# Altium footprint library ArdUno_AADsm5-42b.PcbLib: 27 footprints (part 2 of 2)
Each footprint in its own frame and in the unit in brackets; x right, y up, seen from the top. Pads: shape width x height; smd on the part's side, far side on the other; paste and mask are expansions set on the pad; w line width, h text height; cw(c..) or ccw(c..) is an arc to the next point about the centre after c.
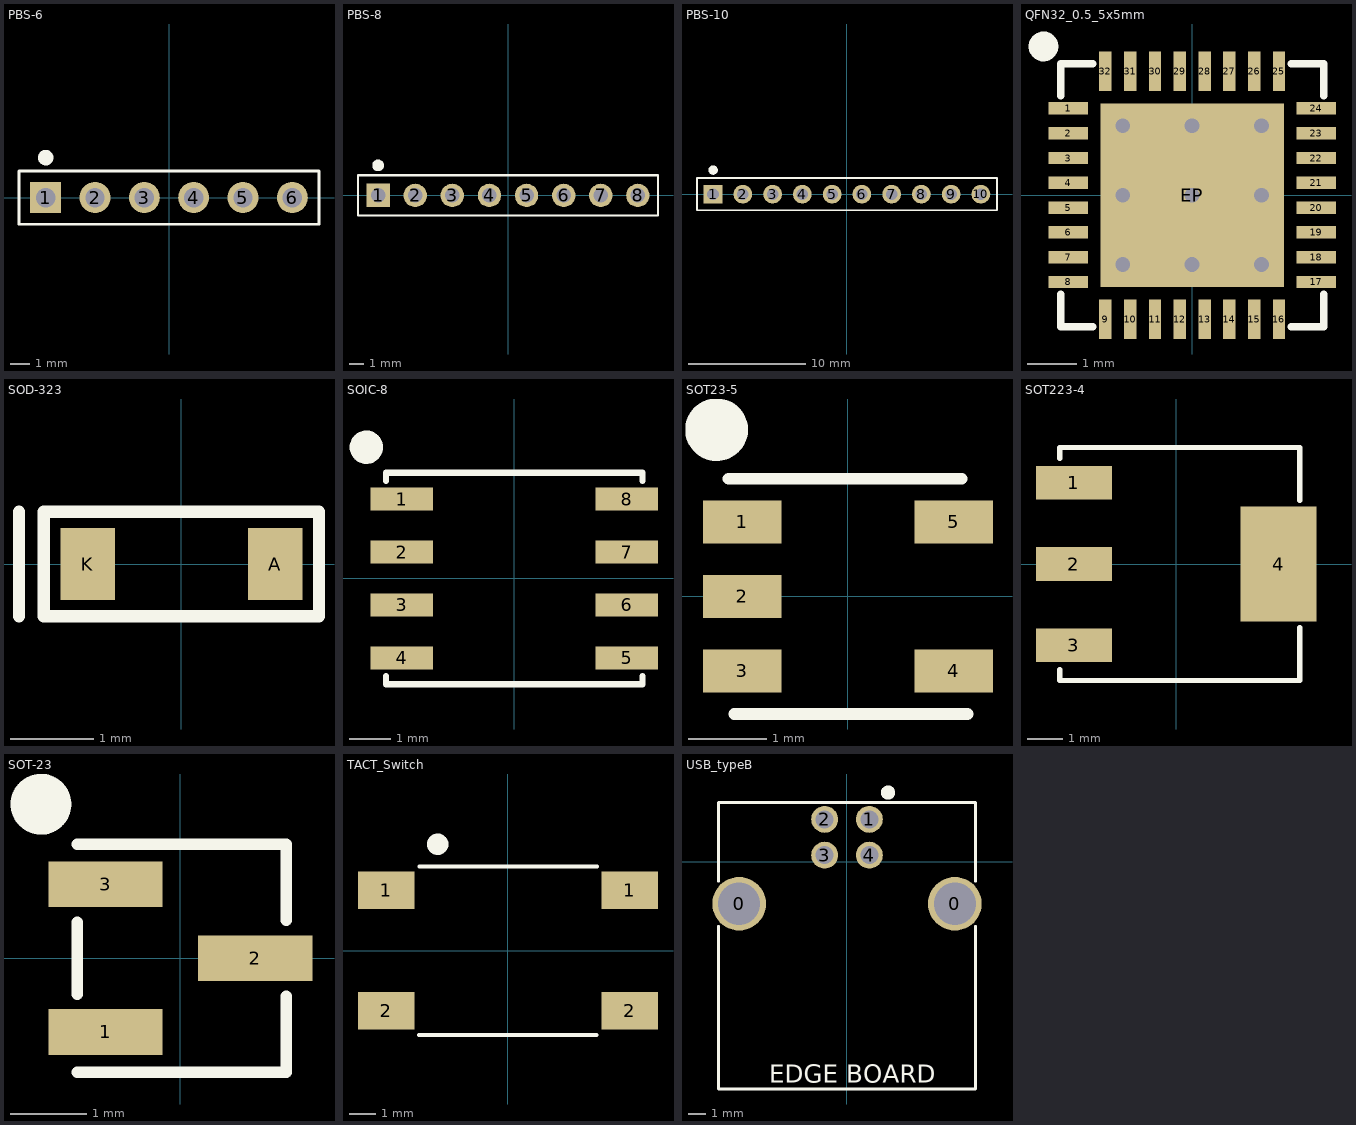
[diagram p1: the footprints below, top view; thin cyan lines are the x and y axes]

## PBS-6 [mm]
pads (6):
  rect 1.6x1.6 hole 1: 1(-6.35,0)
  round 1.6 hole 1: 2(-3.81,0) 3(-1.27,0) 4(1.27,0) 5(3.81,0) 6(6.35,0)
Top Overlay:
  circle w0.4: c-6.35,2.055 r0.2
  lines w0.15: -7.725,-1.375 7.725,-1.375 7.725,1.375 -7.725,1.375 -7.725,-1.375
3D body "PBS-06.step": height 8.4, standoff -3.2, extent -7.62,-1.27 7.62,1.27

## PBS-8 [mm]
pads (8):
  rect 1.6x1.6 hole 1: 1(-8.89,0)
  round 1.6 hole 1: 2(-6.35,0) 3(-3.81,0) 4(-1.27,0) 5(1.27,0) 6(3.81,0) 7(6.35,0) 8(8.89,0)
Top Overlay:
  circle w0.4: c-8.89,2.055 r0.2
  lines w0.15: -10.265,-1.375 10.265,-1.375 10.265,1.375 -10.265,1.375 -10.265,-1.375
3D body "PBS-08.step": height 8.4, standoff -3.2, extent -10.16,-1.27 10.16,1.27

## PBS-10 [mm]
pads (10):
  rect 1.6x1.6 hole 1: 1(-11.43,0)
  round 1.6 hole 1: 2(-8.89,0) 3(-6.35,0) 4(-3.81,0) 5(-1.27,0) 6(1.27,0) 7(3.81,0) 8(6.35,0) 9(8.89,0) 10(11.43,0)
Top Overlay:
  circle w0.4: c-11.43,2.055 r0.2
  lines w0.15: -12.805,-1.375 12.805,-1.375 12.805,1.375 -12.805,1.375 -12.805,-1.375
3D body "PBS-10.step": height 8.4, standoff -3.2, extent -12.7,-1.27 12.7,1.27

## QFN32_0.5_5x5mm [mm]
pads (33):
  rect 0.8x0.25 smd mask+0.05: 1(-2.5,1.75) 2(-2.5,1.25) 3(-2.5,0.75) 4(-2.5,0.25) 5(-2.5,-0.25) 6(-2.5,-0.75) 7(-2.5,-1.25) 8(-2.5,-1.75) 17(2.5,-1.75) 18(2.5,-1.25) 19(2.5,-0.75) 20(2.5,-0.25) 21(2.5,0.25) 22(2.5,0.75) 23(2.5,1.25) 24(2.5,1.75)
  rect 0.25x0.8 smd mask+0.05: 9(-1.75,-2.5) 10(-1.25,-2.5) 11(-0.75,-2.5) 12(-0.25,-2.5) 13(0.25,-2.5) 14(0.75,-2.5) 15(1.25,-2.5) 16(1.75,-2.5) 25(1.75,2.5) 26(1.25,2.5) 27(0.75,2.5) 28(0.25,2.5) 29(-0.25,2.5) 30(-0.75,2.5) 31(-1.25,2.5) 32(-1.75,2.5)
  rect 3.7x3.7 smd mask+0.05: EP(-0.001,0)
via 1.4,-1.401 diameter 0.7 hole 0.3
via -1.401,-1.401 diameter 0.7 hole 0.3
via -1.401,1.4 diameter 0.7 hole 0.3
via 1.4,1.401 diameter 0.7 hole 0.3
via -0.001,1.4 diameter 0.7 hole 0.3
via 0,-1.401 diameter 0.7 hole 0.3
via -1.401,0 diameter 0.7 hole 0.3
via 1.4,0 diameter 0.7 hole 0.3
via -0.001,0 diameter 0.7 hole 0.3
Top Overlay:
  circle w0.3: c-3,3 r0.15
  lines w0.15: -2.65,-2 -2.65,-2.65 -2,-2.65 ; -2.65,2 -2.65,2.65 -2,2.65 ; 2,-2.65 2.65,-2.65 2.65,-2 ; 2,2.65 2.65,2.65 2.65,2
3D body "QFN32_0.5_5x5mm.step": height 0.9, standoff -0.03, extent -2.501,-2.5 2.5,2.5

## SOD-323 [mm] "DiodeSch_BAT54HT1G"
height 1.5
pads (2):
  rect 0.65x0.86 smd: A(1.125,0) K(-1.125,0)
Top Overlay:
  lines w0.15: -1.95,-0.625 -1.95,0.625 ; -1.65,-0.625 -1.65,0.625 1.65,0.625 1.65,-0.625 -1.65,-0.625
3D body "SOD-323.step": height 0.99, standoff 0, extent -1.25,-0.625 1.25,0.625

## SOIC-8 [mm]
pads (8):
  rect 1.5x0.55 smd: 1(-2.7,1.905) 2(-2.7,0.635) 3(-2.7,-0.635) 4(-2.7,-1.905) 5(2.7,-1.905) 6(2.7,-0.635) 7(2.7,0.635) 8(2.7,1.905)
Top Overlay:
  circle w0.4: c-3.55,3.15 r0.2
  lines w0.15: -3.075,-2.345 -3.075,-2.54 -1.165,-2.54 1.165,-2.54 3.075,-2.54 3.075,-2.345 ; -3.075,2.345 -3.075,2.54 -1.165,2.54 1.165,2.54 3.075,2.54 3.075,2.345
3D body "SOIC-8.step": height 1.75, standoff 0, extent -3,-2.45 3,2.45

## SOT23-5 [mm]
pads (5):
  rect 1x0.55 smd: 1(-1.35,0.95) 2(-1.35,0) 3(-1.35,-0.95) 4(1.35,-0.95) 5(1.35,0.95)
Top Overlay:
  circle w0.4: c-1.675,2.125 r0.2
  lines w0.15: -1.525,1.5 1.45,1.5 ; -1.45,-1.5 1.525,-1.5
3D body "SOT23-5.step": height 1.1, standoff 0, extent -1.25,-1.5 1.25,1.5

## SOT223-4 [mm]
height 1.8
pads (4):
  rect 2.15x0.95 smd: 1(-2.9,2.3) 2(-2.9,0) 3(-2.9,-2.3)
  rect 2.15x3.25 smd: 4(2.9,0)
Top Overlay:
  lines w0.15: -3.3,-3 -3.3,-3.3 3.5,-3.3 3.5,-1.8 ; -3.3,3 -3.3,3.3 3.5,3.3 3.5,1.8
3D body "SOT223-4.step": height 1.64, standoff -0.01, extent -3.5,-3.25 3.5,3.25

## SOT-23 [mm]
pads (3):
  rect 1.5x0.6 smd: 1(-0.984,-0.97) 2(0.984,0) 3(-0.984,0.971)
Top Overlay:
  circle w0.4: c-1.834,2.025 r0.2
  lines w0.15: -1.359,-1.5 1.391,-1.5 1.391,-0.5 ; -1.359,-0.475 -1.359,0.475 ; -1.359,1.5 1.391,1.5 1.391,0.5
3D body "SOT-23.step": height 1.1, standoff 0, extent -1.334,-1.5 1.166,1.5

## TACT_Switch [mm]
pads (4):
  rect 2.1x1.4 smd: 1(-4.55,2.25) 1(4.55,2.25) 2(-4.55,-2.25) 2(4.55,-2.25)
Top Overlay:
  circle w0.4: c-2.625,3.975 r0.2
  lines w0.15: -3.325,-3.15 3.3,-3.15 ; -3.3,3.15 3.325,3.15
3D body "Button_TE Connectivity 2-1437565-7.stp": height 4.36, standoff -0.03, extent -5,-3 5,3

## USB_typeB [mm]
pads (6):
  round 3 hole 2.35: 0(-6.02,-2.355) 0(6.02,-2.355)
  round 1.5 hole 1: 1(1.25,2.355) 2(-1.25,2.355) 3(-1.25,0.355) 4(1.25,0.355)
Top Overlay:
  circle w0.4: c2.291,3.85 r0.2
  lines w0.15: -7.175,-3.605 -7.175,-12.7 0,-12.7 7.175,-12.7 7.175,-3.605 ; -7.175,-1.1 -7.175,3.3 0,3.3 7.175,3.3 7.175,-1.1
  text "EDGE BOARD" at -4.35,-12.35 h1
3D body "USB-B TE Connectivity 292304-1.stp": height 11.5, standoff -3.92, extent -7.195,-12.575 7.195,3.125